# EAGLE library part PINHD-1X7 (library pinhead)
PIN HEADER
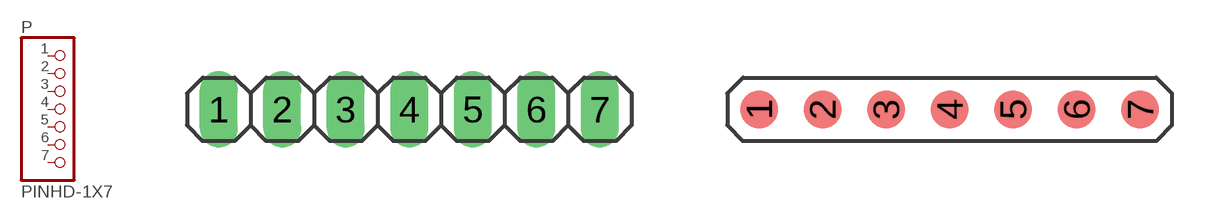
[diagram p31: symbol with the pads of 1X07; footprints 1X07, 1X07SMD]

Designator prefix P

## PINHD-1X7  [1X07]
1  1  pas
2  2  pas
3  3  pas
4  4  pas
5  5  pas
6  6  pas
7  7  pas

## PINHD-1X7SMD  [1X07SMD]
Pads as for 1X07

## PINHD-1X7SMD-RM1.27  [1X07SMDRM1.27]
Pads as for 1X07

## PINHD-1X7SMD-RM1  [1X07SMDRM1]
Pads as for 1X07

## Footprint 1X07 (pad centres in mm)
PIN HEADER
drill 1.016 long: 1 -7.62,0; 2 -5.08,0; 3 -2.54,0; 4 0,0; 5 2.54,0; 6 5.08,0; 7 7.62,0

## Footprint 1X07SMD (pad centres in mm)
PIN HEADER
smd 1.524 x 1.524: 1 -7.62,0; 2 -5.08,0; 3 -2.54,0; 4 0,0; 5 2.54,0; 6 5.08,0; 7 7.62,0

## Footprint 1X07SMDRM1.27 (pad centres in mm)
smd 0.8 x 0.8: 1 -3.81,0; 2 -2.54,0; 3 -1.27,0; 4 0,0; 5 1.27,0; 6 2.54,0; 7 3.81,0

## Footprint 1X07SMDRM1 (pad centres in mm)
smd 0.65 x 0.65: 1 -3,0; 2 -2,0; 3 -1,0; 4 0,0; 5 1,0; 6 2,0; 7 3,0